# Altium footprint library CONNECTOR.PCBLIB: 232 footprints (part 2 of 15)
Each footprint in its own frame and in the unit in brackets; x right, y up, seen from the top. Pads: shape width x height; smd on the part's side, far side on the other; paste and mask are expansions set on the pad; w line width, h text height; cw(c..) or ccw(c..) is an arc to the next point about the centre after c.
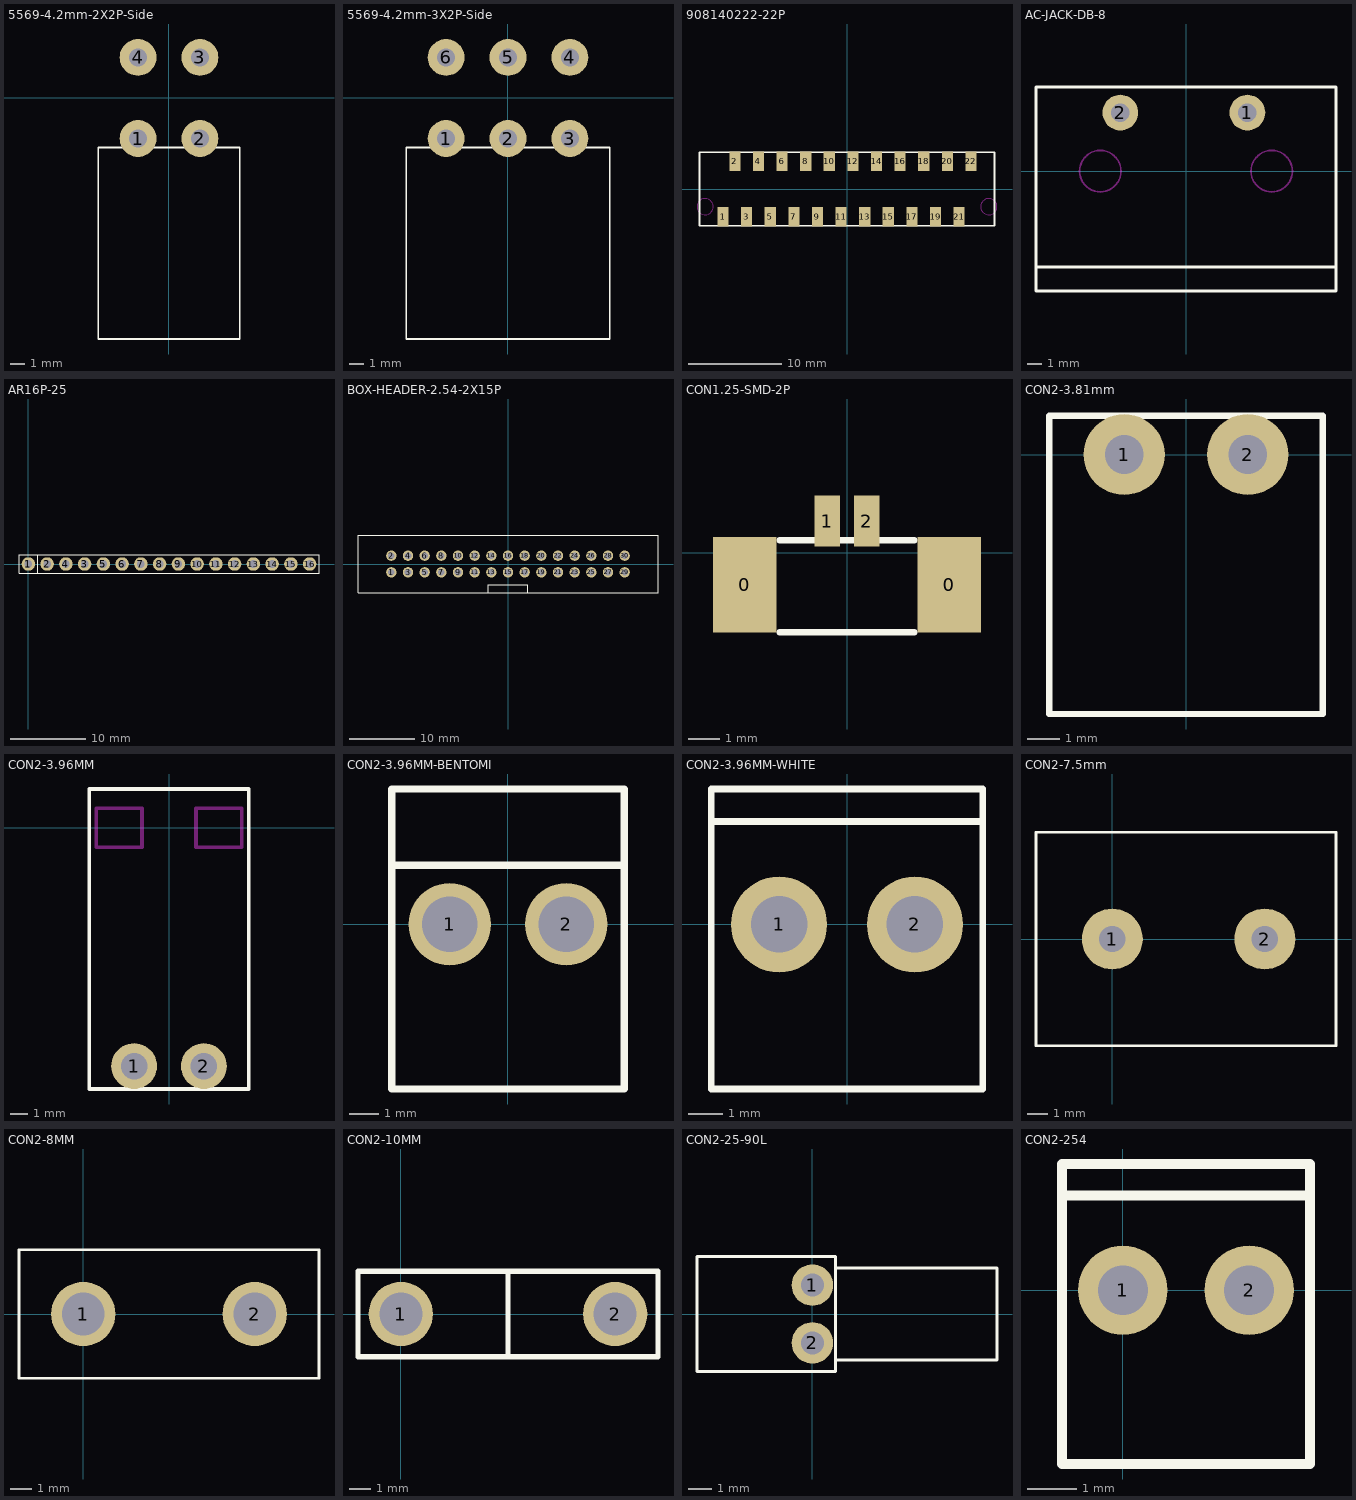
[diagram p1: the footprints below, top view; thin cyan lines are the x and y axes]

## 5569-4.2mm-2X2P-Side [mm] "5569-4.2mm-2X2P-Side"
pads (4):
  round 2.5 hole 1.2: 1(-2.1,-2.75) 2(2.1,-2.75) 3(2.1,2.75) 4(-2.1,2.75)
TopOverlay:
  lines w0.127: -4.8,-16.35 -4.8,-3.35 4.8,-3.35 4.8,-16.35 -4.8,-16.35

## 5569-4.2mm-3X2P-Side [mm] "5569-4.2mm-3X2P-Side"
pads (6):
  round 2.5 hole 1.2: 1(-4.2,-2.75) 2(0,-2.75) 3(4.2,-2.75) 4(4.2,2.75) 5(0,2.75) 6(-4.2,2.75)
TopOverlay:
  lines w0.127: -6.9,-16.35 -6.9,-3.35 6.9,-3.35 6.9,-16.35 -6.9,-16.35

## 908140222-22P [mm] "908140222-22P"
pads (22):
  rect 1.2x2.1 smd: 1(-13.335,-3) 2(-12.065,3) 3(-10.795,-3) 4(-9.525,3) 5(-8.255,-3) 6(-6.985,3) 7(-5.715,-3) 8(-4.445,3) 9(-3.175,-3) 10(-1.905,3) 11(-0.635,-3) 12(0.635,3) 13(1.905,-3) 14(3.175,3) 15(4.445,-3) 16(5.715,3) 17(6.985,-3) 18(8.255,3) 19(9.525,-3) 20(10.795,3) 21(12.065,-3) 22(13.335,3)
TopOverlay:
  lines w0.2: -15.86,-3.95 15.86,-3.95 15.86,3.95 -15.86,3.95 -15.86,-3.95
KeepOutLayer:
  circle w0.127: c15.26,-1.9 r0.875
  circle w0.127: c-15.26,-1.9 r0.875

## AC-JACK-DB-8 [mm] "AC-JACK-DB-8"
pads (2):
  round 2.5 hole 1.3: 1(4.3,4.1) 2(-4.6,4.1)
TopOverlay:
  lines w0.2: -10.5,-6.7 10.5,-6.7 ; -10.5,-8.4 10.5,-8.4 10.5,5.9 -10.5,5.9 -10.5,-8.4
KeepOutLayer:
  circle w0.127: c6,0 r1.45
  circle w0.127: c-6,0 r1.45

## AR16P-25 [mm]
pads (16):
  round 1.8 hole 1: 1(0,0) 2(2.5,0) 3(7.5,0) 4(5,0) 5(10,0) 6(12.5,0) 7(15,0) 8(17.5,0) 9(20,0) 10(22.5,0) 11(25,0) 12(27.5,0) 13(30,0) 14(32.5,0) 15(35,0) 16(37.5,0)
TopOverlay:
  lines w0.127: 1.25,-1.25 1.25,1.25 ; -1.25,-1.25 -1.25,1.25 38.75,1.25 38.75,-1.25 -1.25,-1.25

## BOX-HEADER-2.54-2X15P [mm]
pads (30):
  round 1.6 hole 1: 1(-17.78,-1.27) 2(-17.78,1.27) 3(-15.24,-1.27) 4(-15.24,1.27) 5(-12.7,-1.27) 6(-12.7,1.27) 7(-10.16,-1.27) 8(-10.16,1.27) 9(-7.62,-1.27) 10(-7.62,1.27) 11(-5.08,-1.27) 12(-5.08,1.27) 13(-2.54,-1.27) 14(-2.54,1.27) 15(0,-1.27) 16(0,1.27) 17(2.54,-1.27) 18(2.54,1.27) 19(5.08,-1.27) 20(5.08,1.27) 21(7.62,-1.27) 22(7.62,1.27) 23(10.16,-1.27) 24(10.16,1.27) 25(12.7,-1.27) 26(12.7,1.27) 27(15.24,-1.27) 28(15.24,1.27) 29(17.78,-1.27) 30(17.78,1.27)
TopOverlay:
  lines w0.127: -3,-4.35 -3,-3.15 3,-3.15 3,-4.35 ; -22.86,-4.35 22.86,-4.35 22.86,4.35 -22.86,4.35 -22.86,-4.35

## CON1.25-SMD-2P [mm]
pads (4):
  rect 2x3 smd: 0(-3.225,-1) 0(3.225,-1)
  rect 0.8x1.6 smd: 1(-0.625,1) 2(0.625,1)
TopOverlay:
  lines w0.2: -2.125,-2.5 2.125,-2.5 ; -2.125,0.4 2.125,0.4

## CON2-3.81mm [mm] "CON2-3.81mm"
pads (2):
  round 2.5 hole 1.2: 1(-1.905,0) 2(1.905,0)
TopOverlay:
  lines w0.2: -4.21,-8 -4.21,1.2 4.21,1.2 4.21,-8 -4.21,-8

## CON2-3.96MM [mm]
pads (2):
  round 2.6 hole 1.5: 1(-1.98,-13.5) 2(1.98,-13.5)
TopOverlay:
  lines w0.2: -4.53,-14.8 -4.53,2.2 4.53,2.2 4.53,-14.8 -4.53,-14.8
KeepOutLayer:
  lines w0.2: -4.13,-1.1 -1.53,-1.1 -1.53,1.1 -4.13,1.1 -4.13,-1.1 ; 1.53,-1.1 1.53,1.1 4.13,1.1 4.13,-1.1 1.53,-1.1

## CON2-3.96MM-BENTOMI [mm]
pads (2):
  round 2.8 hole 1.9: 1(-1.98,0) 2(1.98,0)
TopOverlay:
  lines w0.254: -3.96,2 3.96,2 ; -3.96,-5.6 3.96,-5.6 3.96,4.6 -3.96,4.6 -3.96,-5.6

## CON2-3.96MM-WHITE [mm]
pads (2):
  round 2.8 hole 1.65: 1(-1.98,0) 2(1.98,0)
TopOverlay:
  lines w0.2: -3.96,3 3.96,3 ; -3.96,-4.8 -3.96,3.95 3.96,3.95 3.96,-4.8 -3.96,-4.8

## CON2-7.5mm [mm] "CON2-7.5mm"
pads (2):
  round 3 hole 1.3: 1(0,0) 2(7.5,0)
TopOverlay:
  lines w0.127: -3.75,-5.25 -3.75,5.25 11,5.25 11,-5.25 -3.75,-5.25

## CON2-8MM [mm]
pads (2):
  round 3 hole 2: 1(0,0) 2(8,0)
TopOverlay:
  lines w0.127: -3,-3 -3,3 11,3 11,-3 -3,-3

## CON2-10MM [mm]
pads (2):
  round 3 hole 2: 1(0,0) 2(10,0)
TopOverlay:
  lines w0.254: 5,-2 5,2 ; -2,-2 12,-2 12,2 -2,2 -2,-2

## CON2-25-90L [mm]
pads (2):
  round 1.8 hole 1: 1(0,1.25) 2(0,-1.25)
TopOverlay:
  lines w0.127: 1,-2 8,-2 8,2 1,2 ; -5,-2.5 -5,2.5 1,2.5 1,-2.5 -5,-2.5

## CON2-254 [mm]
pads (2):
  round 1.8 hole 1: 1(0,0) 2(2.54,0)
TopOverlay:
  lines w0.203: -1.23,1.905 3.77,1.905 ; -1.23,-3.5 -1.23,2.54 3.77,2.54 3.77,-3.5 -1.23,-3.5